# Altium schematic symbol library Components - 23.07.26 - 01.01.SchLib: 1 symbol
Pins are listed as number, name and electrical type; pins without a type are passive.

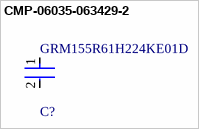
[diagram p0: symbol CMP-06035-063429-2]

## CMP-06035-063429-2
designator C?, comment GRM155R61H224KE01D
Multilayer Ceramic Capacitor 0.22uF 10% 50V X5R 0402 Paper T/R
footprint FP-GRM155-0_05-IPC_A
footprint FP-GRM155-0_05-IPC_C
footprint FP-GRM155-0_05-IPC_B
footprint FP-GRM155-0_05-MFG
pins: 1, 2